# Altium footprint library PCB.PcbLib: 44 footprints (part 2 of 3)
Each footprint in its own frame and in the unit in brackets; x right, y up, seen from the top. Pads: shape width x height; smd on the part's side, far side on the other; paste and mask are expansions set on the pad; w line width, h text height; cw(c..) or ccw(c..) is an arc to the next point about the centre after c.
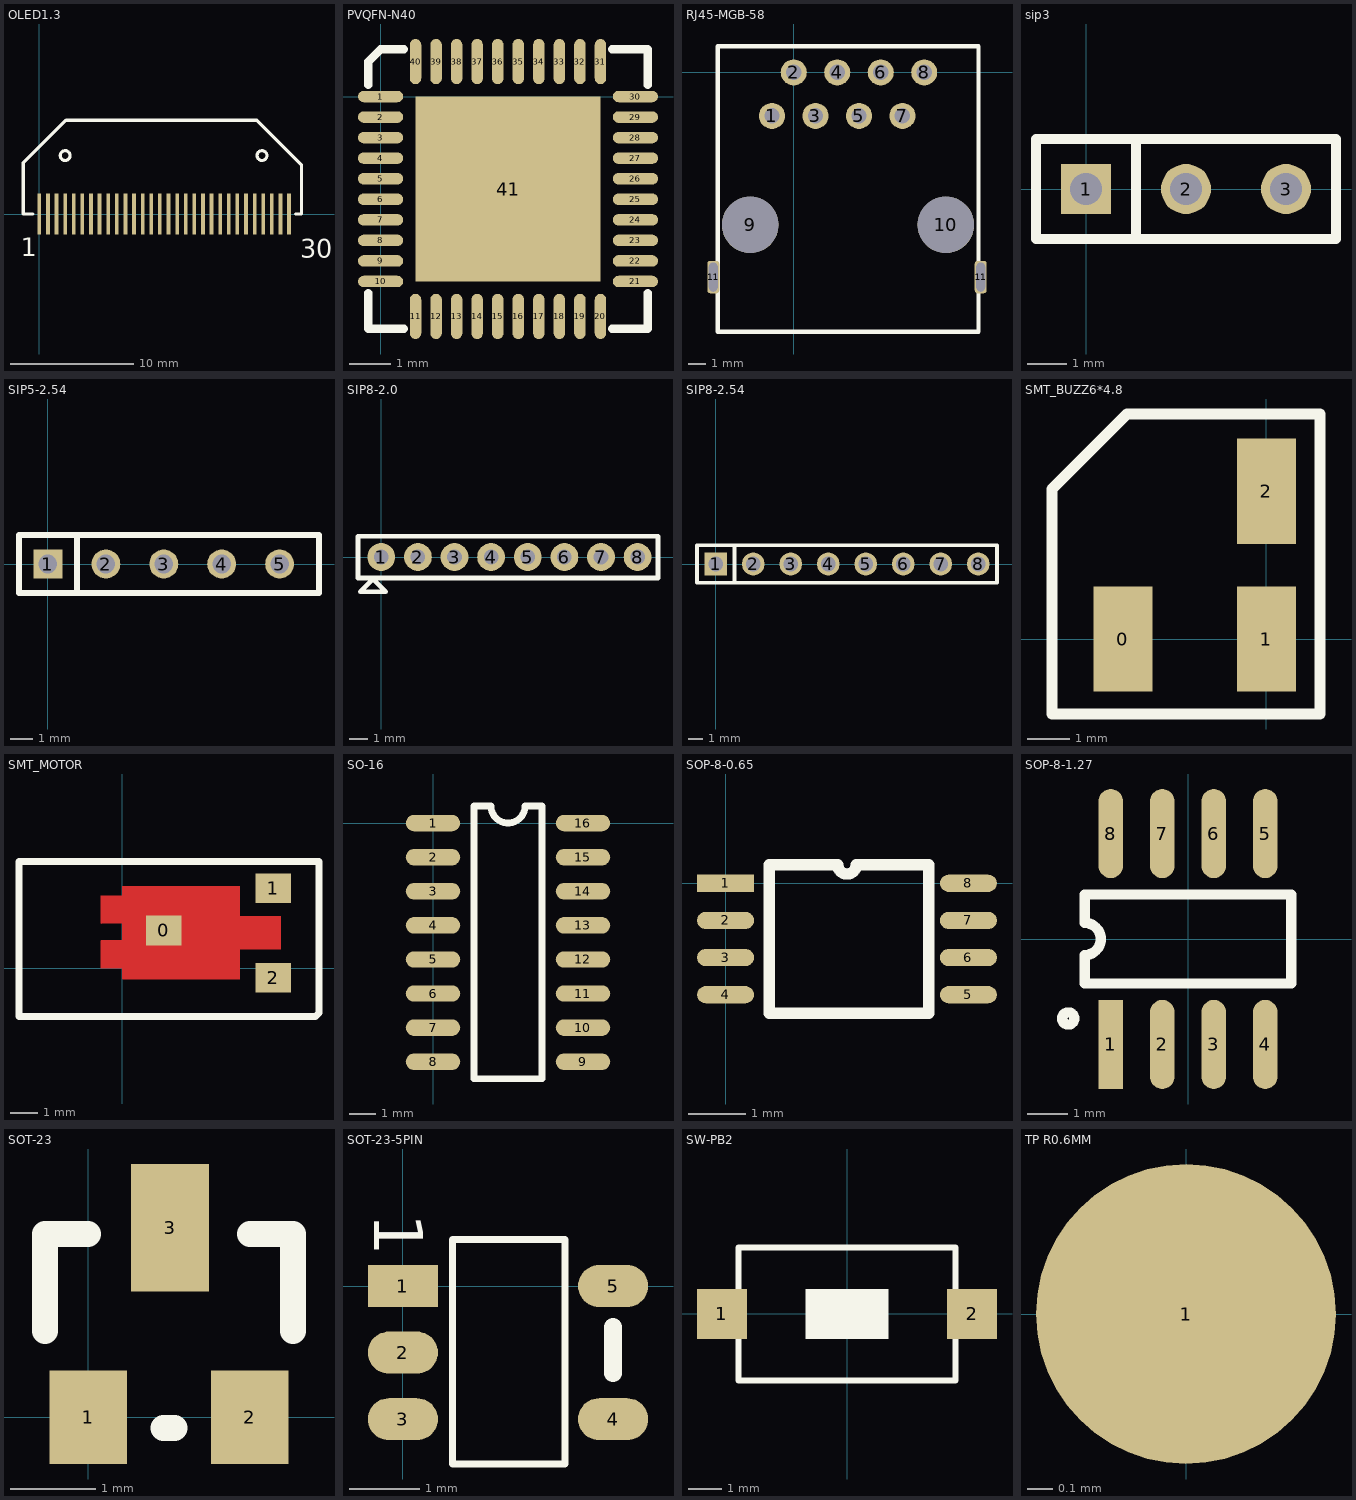
[diagram p1: the footprints below, top view; thin cyan lines are the x and y axes]

## OLED1.3 [mm]
height 0.043
pads (30):
  rect 0.3x3.3 smd: 1(0,0) 2(0.7,0) 3(1.4,0) 4(2.1,0) 5(2.8,0) 6(3.5,0) 7(4.2,0) 8(4.9,0) 9(5.6,0) 10(6.3,0) 11(7,0) 12(7.7,0) 13(8.4,0) 14(9.1,0) 15(9.8,0) 16(10.5,0) 17(11.2,0) 18(11.9,0) 19(12.6,0) 20(13.3,0) 21(14,0) 22(14.7,0) 23(15.4,0) 24(16.1,0) 25(16.8,0) 26(17.5,0) 27(18.2,0) 28(18.9,0) 29(19.6,0) 30(20.3,0)
Top Overlay:
  circle w0.254: c2.1,4.75 r0.4
  circle w0.254: c18.1,4.75 r0.4
  lines w0.254: -0.5,0 -1.3,0 -1.3,4 -1.3,4.161 2.159,7.62 17.68,7.62 18.161,7.139 21.3,4 21.3,0 20.828,0
  text "1" at -1.524,-3.429 h1.52
  text "30" at 21.209,-3.556 h1.52

## PVQFN-N40 [mm]
pads (41):
  oval 1.1x0.28 smd: 1(0,0) 2(0,-0.5) 3(0,-1) 4(0,-1.5) 5(0,-2) 6(0,-2.5) 7(0,-3) 8(0,-3.5) 9(0,-4) 10(0,-4.5) 21(6.2,-4.5) 22(6.2,-4) 23(6.2,-3.5) 24(6.2,-3) 25(6.2,-2.5) 26(6.2,-2) 27(6.2,-1.5) 28(6.2,-1) 29(6.2,-0.5) 30(6.2,0)
  oval 0.28x1.1 smd: 11(0.85,-5.35) 12(1.35,-5.35) 13(1.85,-5.35) 14(2.35,-5.35) 15(2.85,-5.35) 16(3.35,-5.35) 17(3.85,-5.35) 18(4.35,-5.35) 19(4.85,-5.35) 20(5.35,-5.35) 31(5.35,0.85) 32(4.85,0.85) 33(4.35,0.85) 34(3.85,0.85) 35(3.35,0.85) 36(2.85,0.85) 37(2.35,0.85) 38(1.85,0.85) 39(1.35,0.85) 40(0.85,0.85)
  rect 4.5x4.5 smd: 41(3.1,-2.25)
Top Overlay:
  lines w0.2: -0.3,-4.78 -0.3,-5.65 0.57,-5.65 ; -0.3,0.28 -0.3,0.85 0,1.15 0.57,1.15 ; 5.63,-5.65 6.5,-5.65 6.5,-4.78 ; 5.63,1.15 6.5,1.15 6.5,0.28

## RJ45-MGB-58 [mm]
height 13.4
pads (12):
  round 1.524 hole 0.9: 1(-1.27,-2.54) 2(0,0) 3(1.27,-2.54) 4(2.54,0) 5(3.81,-2.54) 6(5.08,0) 7(6.35,-2.54) 8(7.62,0)
  round 3.3 hole 3.3: 9(-2.54,-8.902) 10(8.89,-8.902)
  rrect50% 0.7x1.9 hole 0.5 slot 1.7 at 90 deg: 11(-4.699,-11.952) 11(10.922,-11.952)
Top Overlay:
  lines w0.2: -4.445,-15.143 10.795,-15.143
  lines w0.254: -4.445,-15.143 10.795,-15.143 10.795,1.524 -4.445,1.524 -4.445,-15.143

## sip3 [mil]
pads (3):
  rect 50x50 hole 32: 1(0,0)
  round 50 hole 32: 2(100,0) 3(200,0)
Top Overlay:
  lines w10: 50,-50 50,50 ; -50,-50 -50,50 250,50 250,-50 -50,-50

## SIP5-2.54 [mil]
pads (5):
  rect 50x50 hole 32: 1(0,0)
  round 50 hole 32: 2(100,0) 3(200,0) 4(300,0) 5(400,0)
Top Overlay:
  lines w10: 50,-50 50,50 ; -50,-50 -50,50 468,50 468,-50 -50,-50

## SIP8-2.0 [mil]
pads (8):
  round 60 hole 31.5: 1(0,0) 2(78.74,0) 3(157.48,0) 4(236.22,0) 5(314.96,0) 6(393.7,0) 7(472.44,0) 8(551.18,0)
Top Overlay:
  lines w10: -20,-45 10,-75 -45,-75 -15,-45 ; -10,-45 0,-45 ; -50,-45 -50,45 -30,45 595,45 595,-45 -50,-45

## SIP8-2.54 [mm]
pads (8):
  rect 1.54x1.54 hole 1: 1(0,0)
  round 1.54 hole 1: 2(2.54,0) 3(5.08,0) 4(7.62,0) 5(10.16,0) 6(12.7,0) 7(15.24,0) 8(17.78,0)
Top Overlay:
  lines w0.254: 1.27,-1.27 1.27,1.27 ; -1.27,-1.27 -1.27,1.27 19.05,1.27 19.05,-1.27 -1.27,-1.27

## SMT_BUZZ6*4.8 [mm]
height 2
pads (3):
  rect 1.4x2.5 smd: 0(-3.4,0) 1(0,0) 2(0,3.5)
Top Overlay:
  lines w0.254: -5.08,-1.778 1.27,-1.778 1.27,5.334 -3.302,5.334 -5.08,3.556 -5.08,-1.778

## SMT_MOTOR [mm]
height 3.4
pads (3):
  rect 1.3x1.1 smd: 0(1.524,1.397) 1(5.55,2.95) 2(5.55,-0.35)
Top Layer:
  region: -0.787,-0.001 -0.797,0.003 -0.801,0.013 -0.8,0.013 -0.801,1.013 -0.797,1.023 -0.787,1.027 -0.787,1.026 0,1.026 0,1.651 -0.787,1.65 -0.797,1.654 -0.801,1.664 -0.8,1.664 -0.801,2.664 -0.797,2.674 -0.787,2.678 -0.787,2.677 0,2.677 -0.001,3.013 0.003,3.023 0.013,3.027 0.013,3.026 4.313,3.027 4.323,3.023 4.327,3.013 4.324,3.006 4.325,3.006 4.328,2.999 4.327,2.999 4.327,1.912 5.813,1.913 5.823,1.909 5.827,1.899 5.826,1.899 5.827,0.713 5.823,0.703 5.813,0.699 5.813,0.7 4.326,0.7 4.327,-0.387 4.323,-0.397 4.313,-0.401 4.313,-0.4 0.013,-0.401 0.003,-0.397 -0.001,-0.387 0,-0.387 0,0
Top Overlay:
  lines w0.254: -3.81,-1.778 -3.81,3.937 7.239,3.937 7.239,-1.651 7.112,-1.778 -3.81,-1.778
Top Paste:
  region: -0.787,-0.001 -0.797,0.003 -0.801,0.013 -0.8,0.013 -0.801,1.013 -0.797,1.023 -0.787,1.027 -0.787,1.026 0,1.026 0,1.651 -0.787,1.65 -0.797,1.654 -0.801,1.664 -0.8,1.664 -0.801,2.664 -0.797,2.674 -0.787,2.678 -0.787,2.677 0,2.677 -0.001,3.013 0.003,3.023 0.013,3.027 0.013,3.026 4.313,3.027 4.323,3.023 4.327,3.013 4.324,3.006 4.325,3.006 4.328,2.999 4.327,2.999 4.327,1.912 5.813,1.913 5.823,1.909 5.827,1.899 5.826,1.899 5.827,0.713 5.823,0.703 5.813,0.699 5.813,0.7 4.326,0.7 4.327,-0.387 4.323,-0.397 4.313,-0.401 4.313,-0.4 0.013,-0.401 0.003,-0.397 -0.001,-0.387 0,-0.387 0,0
Top Solder:
  region: -0.787,-0.001 -0.797,0.003 -0.801,0.013 -0.8,0.013 -0.801,1.013 -0.797,1.023 -0.787,1.027 -0.787,1.026 0,1.026 0,1.651 -0.787,1.65 -0.797,1.654 -0.801,1.664 -0.8,1.664 -0.801,2.664 -0.797,2.674 -0.787,2.678 -0.787,2.677 0,2.677 -0.001,3.013 0.003,3.023 0.013,3.027 0.013,3.026 4.313,3.027 4.323,3.023 4.327,3.013 4.324,3.006 4.325,3.006 4.328,2.999 4.327,2.999 4.327,1.912 5.813,1.913 5.823,1.909 5.827,1.899 5.826,1.899 5.827,0.713 5.823,0.703 5.813,0.699 5.813,0.7 4.326,0.7 4.327,-0.387 4.323,-0.397 4.313,-0.401 4.313,-0.4 0.013,-0.401 0.003,-0.397 -0.001,-0.387 0,-0.387 0,0

## SO-16 [mil]
pads (16):
  oval 80x24 smd: 1(0,0) 2(0,-50) 3(0,-100) 4(0,-150) 5(0,-200) 6(0,-250) 7(0,-300) 8(0,-350) 9(220,-350) 10(220,-300) 11(220,-250) 12(220,-200) 13(220,-150) 14(220,-100) 15(220,-50) 16(220,0)
Top Overlay:
  lines w10: 60,-375 60,25 85,25 ccw(c110,25) 135,25 160,25 160,-375 60,-375

## SOP-8-0.65 [mm]
pads (8):
  rect 1x0.3 smd: 1(0,0)
  oval 1x0.3 smd: 2(0,-0.65) 3(0,-1.3) 4(0,-1.95) 5(4.25,-1.95) 6(4.25,-1.3) 7(4.25,-0.65) 8(4.25,0)
Top Overlay:
  lines w0.2: 0.762,-2.275 3.556,-2.275 3.556,0.325 2.287,0.325 cw(c2.125,0.325) 1.963,0.325 0.762,0.325 0.762,-2.275

## SOP-8-1.27 [mm]
height 2.16
pads (8):
  rect 0.6x2.2 smd: 1(-1.905,-2.6)
  oval 0.6x2.2 smd: 2(-0.635,-2.6) 3(0.635,-2.6) 4(1.905,-2.6) 5(1.905,2.6) 6(0.635,2.6) 7(-0.635,2.6) 8(-1.905,2.6)
Top Overlay:
  circle w0.254: c-2.954,-1.961 r0.15
  lines w0.254: -2.55,-1.1 -2.55,-0.4 ccw(c-2.55,0) -2.55,0.4 -2.55,1.1 2.55,1.1 2.55,-1.1 -2.55,-1.1

## SOT-23 [mm]
pads (3):
  rect 0.914x1.1 smd: 1(0,0) 2(1.905,0)
  rect 0.914x1.5 smd: 3(0.965,2.232)
Top Overlay:
  lines w0.305: -0.508,1.016 -0.508,2.159 0,2.159 ; 0.889,-0.127 1.016,-0.127 ; 1.905,2.159 2.413,2.159 2.413,1.016

## SOT-23-5PIN [mm]
pads (5):
  rect 1x0.6 smd: 1(0,0)
  oval 1x0.6 smd: 2(0,-0.95) 3(0,-1.9) 4(3,-1.9) 5(3,0)
Top Overlay:
  lines w0.1: 0.711,-2.54 0.711,0.66 2.311,0.66 2.311,-2.54 0.711,-2.54
  lines w0.254: 2.997,-1.245 2.997,-0.584
  text "1" at -0.406,1.041 h0.7

## SW-PB2 [mm]
pads (2):
  rect 1.5x1.5 smd: 1(-3.756,-0.007) 2(3.744,-0.007)
Top Overlay:
  rectangle: -1.256,-0.757 1.244,0.743
  lines w0.178: -3.256,-0.757 -3.256,-2.007 3.244,-2.007 3.244,-0.757 ; -3.256,0.743 -3.256,1.993 3.244,1.993 3.244,0.743

## TP R0.6MM [mm] "TESTPOINT"
pads (1):
  round 1.2 smd: 1(0,0)